# EAGLE library part MCP48X2 (library xess)
Microchip MCP4802/4812/4822 DAC Microchip 8, 10 and 12-bit dual-DACs with SPI interface.
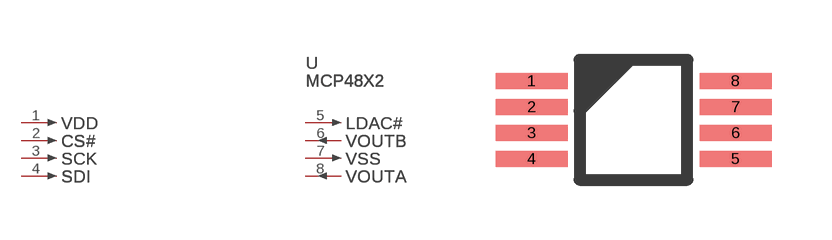
[diagram p159: symbol with the pads of MICROCHIP-8_MSOP; footprint MICROCHIP-8_MSOP]

Designator prefix U; gates PART=PV_GATE VDD=PIN_GATE_IN CS#=PIN_GATE_IN SCK=PIN_GATE_IN SDI=PIN_GATE_IN LDAC#=PIN_GATE_IN VOUTB=PIN_GATE_OUT VSS=PIN_GATE_IN VOUTA=PIN_GATE_OUT

## MCP48X2-MSOP8 (DIGIKEY#: MCP4822-E/MS-ND; MANF: Microchip Technology; MANF#: MCP4822-E/MS)  [MICROCHIP-8_MSOP]
1  VDD:1  in
2  CS#:1  in
3  SCK:1  in
4  SDI:1  in
5  LDAC#:1  in
6  VOUTB:1  out
7  VSS:1  in
8  VOUTA:1  out

## Footprint MICROCHIP-8_MSOP (pad centres in mm)
Microchip 8-Lead Plastic Small Outline Package
smd 1.8 x 0.4: 1 -0.5,0; 2 -0.5,-0.65; 3 -0.5,-1.3; 4 -0.5,-1.95; 5 4.6,-1.95; 6 4.6,-1.3; 7 4.6,-0.65; 8 4.6,0